# EAGLE library part MEMORY-M27C160 (library ZIF40ROM)
MEMORY
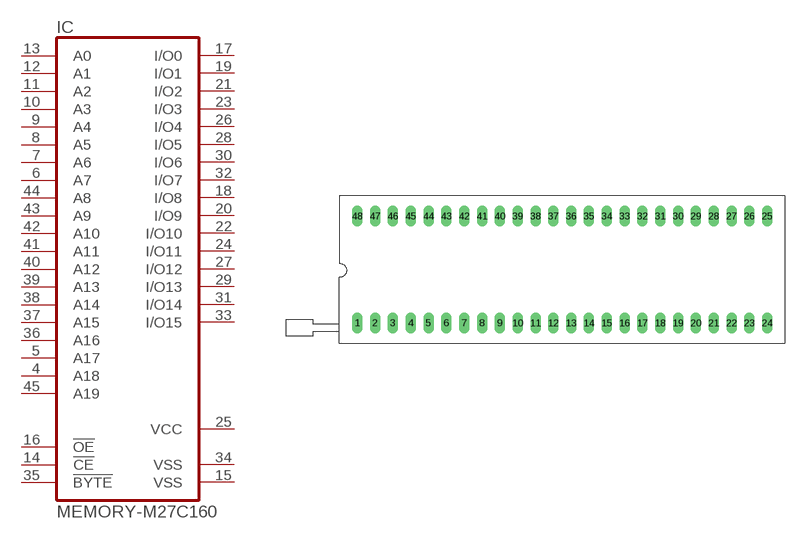
[diagram p1: symbol with the pads of MEMORY-HITACHI_ZIF48; footprint MEMORY-HITACHI_ZIF48]

Designator prefix IC

## MEMORY-M27C160  [MEMORY-HITACHI_ZIF48]
4  A18  in
5  A17  in
6  A7  in
7  A6  in
8  A5  in
9  A4  in
10  A3  in
11  A2  in
12  A1  in
13  A0  in
14  !CE  in
15  VSS  pwr
16  !OE  in
17  I/O0  hiz
18  I/O8  hiz
19  I/O1  hiz
20  I/O9  hiz
21  I/O2  hiz
22  I/O10  hiz
23  I/O3  hiz
24  I/O11  hiz
25  VCC  pwr
26  I/O4  hiz
27  I/O12  hiz
28  I/O5  hiz
29  I/O13  hiz
30  I/O6  hiz
31  I/O14  hiz
32  I/O7  hiz
33  I/O15  hiz
34  VSS  pwr
35  !BYTE  in
36  A16  in
37  A15  in
38  A14  in
39  A13  in
40  A12  in
41  A11  in
42  A10  in
43  A9  in
44  A8  in
45  A19  in

## Footprint MEMORY-HITACHI_ZIF48 (pad centres in mm)
Dual In Line Package
drill 1 long: 1 -24.13,-7.62; 2 -21.59,-7.62; 3 -19.05,-7.62; 4 -16.51,-7.62; 5 -13.97,-7.62; 6 -11.43,-7.62; 7 -8.89,-7.62; 8 -6.35,-7.62; 9 -3.81,-7.62; 10 -1.27,-7.62; 11 1.27,-7.62; 12 3.81,-7.62; 13 6.35,-7.62; 14 8.89,-7.62; 15 11.43,-7.62; 16 13.97,-7.62; 17 16.51,-7.62; 18 19.05,-7.62; 19 21.59,-7.62; 20 24.13,-7.62; 21 26.67,-7.62; 22 29.21,-7.62; 23 31.75,-7.62; 24 34.29,-7.62; 25 34.29,7.62; 26 31.75,7.62; 27 29.21,7.62; 28 26.67,7.62; 29 24.13,7.62; 30 21.59,7.62; 31 19.05,7.62; 32 16.51,7.62; 33 13.97,7.62; 34 11.43,7.62; 35 8.89,7.62; 36 6.35,7.62; 37 3.81,7.62; 38 1.27,7.62; 39 -1.27,7.62; 40 -3.81,7.62; 41 -6.35,7.62; 42 -8.89,7.62; 43 -11.43,7.62; 44 -13.97,7.62; 45 -16.51,7.62; 46 -19.05,7.62; 47 -21.59,7.62; 48 -24.13,7.62